# Altium footprint library RECOM-Reg.PcbLib: 1 footprints
Each footprint in its own frame and in the unit in brackets; x right, y up, seen from the top. Pads: shape width x height; smd on the part's side, far side on the other; paste and mask are expansions set on the pad; w line width, h text height; cw(c..) or ccw(c..) is an arc to the next point about the centre after c.
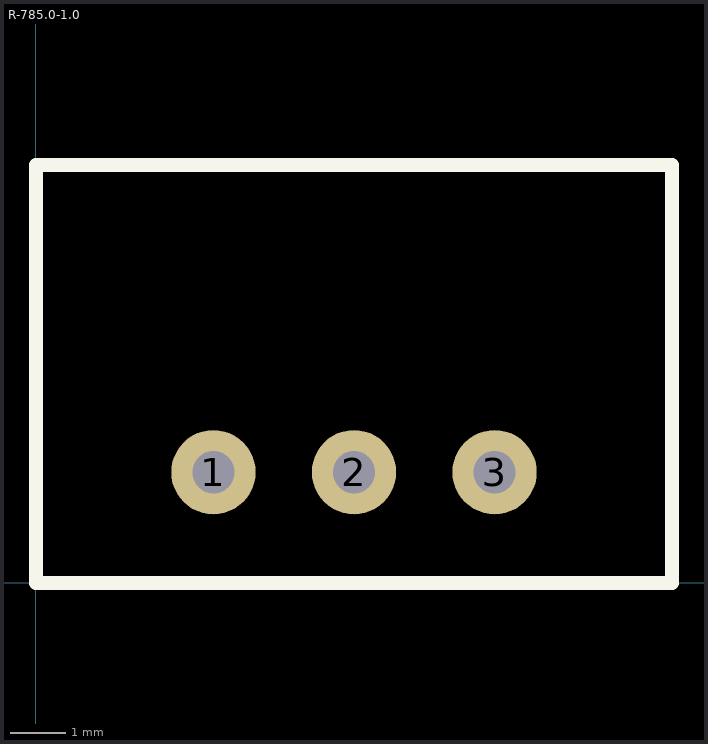
[diagram p0: the footprint, top view; thin cyan lines are the x and y axes]

## R-785.0-1.0 [mil]
pads (3):
  round 60 hole 30: 1(126.38,78.74) 2(226.38,78.74) 3(326.38,78.74)
Top Overlay:
  lines w10: 0,0 452.76,0 452.76,297.24 0,297.24 0,0